# Altium footprint library vishay_esmp.PcbLib: 1 footprints
Each footprint in its own frame and in the unit in brackets; x right, y up, seen from the top. Pads: shape width x height; smd on the part's side, far side on the other; paste and mask are expansions set on the pad; w line width, h text height; cw(c..) or ccw(c..) is an arc to the next point about the centre after c.
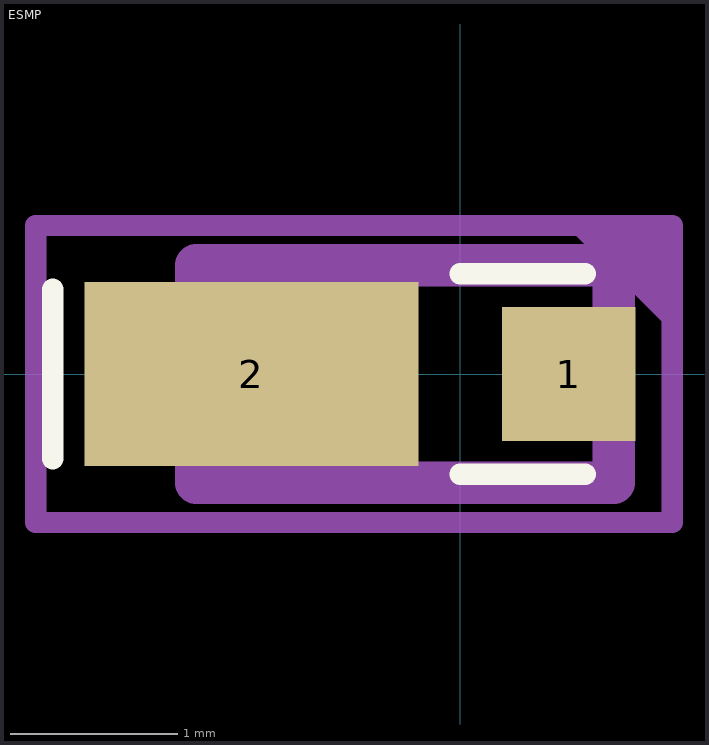
[diagram p0: the footprint, top view; thin cyan lines are the x and y axes]

## ESMP [mm]
height 0.73
pads (2):
  rect 0.8x0.8 smd: 1(0.65,0)
  rect 2x1.1 smd: 2(-1.25,0)
Top Overlay:
  lines w0.127: -2.438,-0.508 -2.438,0.508 ; 0,-0.6 0.75,-0.6 ; 0,0.6 0.75,0.6
Top 3D Body:
  lines w0.254: -1.58,-0.65 -1.58,0.65 0.92,0.65 0.92,-0.65 -1.58,-0.65
Top Courtyard:
  region: 0.635,0.889 1.27,0.254 1.27,0.889
  lines w0.127: -2.54,-0.889 1.27,-0.889 1.27,0.889 -2.54,0.889 -2.54,-0.889
Top Designator (Mech17):
  text ".Designator" at -1.93,-0.229 h1.27
3D body "ESMP.STEP": height 0.68, standoff 0, extent -1.58,-0.65 0.92,0.65